# Altium footprint library Core51822-related.PcbLib: 15 footprints
Each footprint in its own frame and in the unit in brackets; x right, y up, seen from the top. Pads: shape width x height; smd on the part's side, far side on the other; paste and mask are expansions set on the pad; w line width, h text height; cw(c..) or ccw(c..) is an arc to the next point about the centre after c.
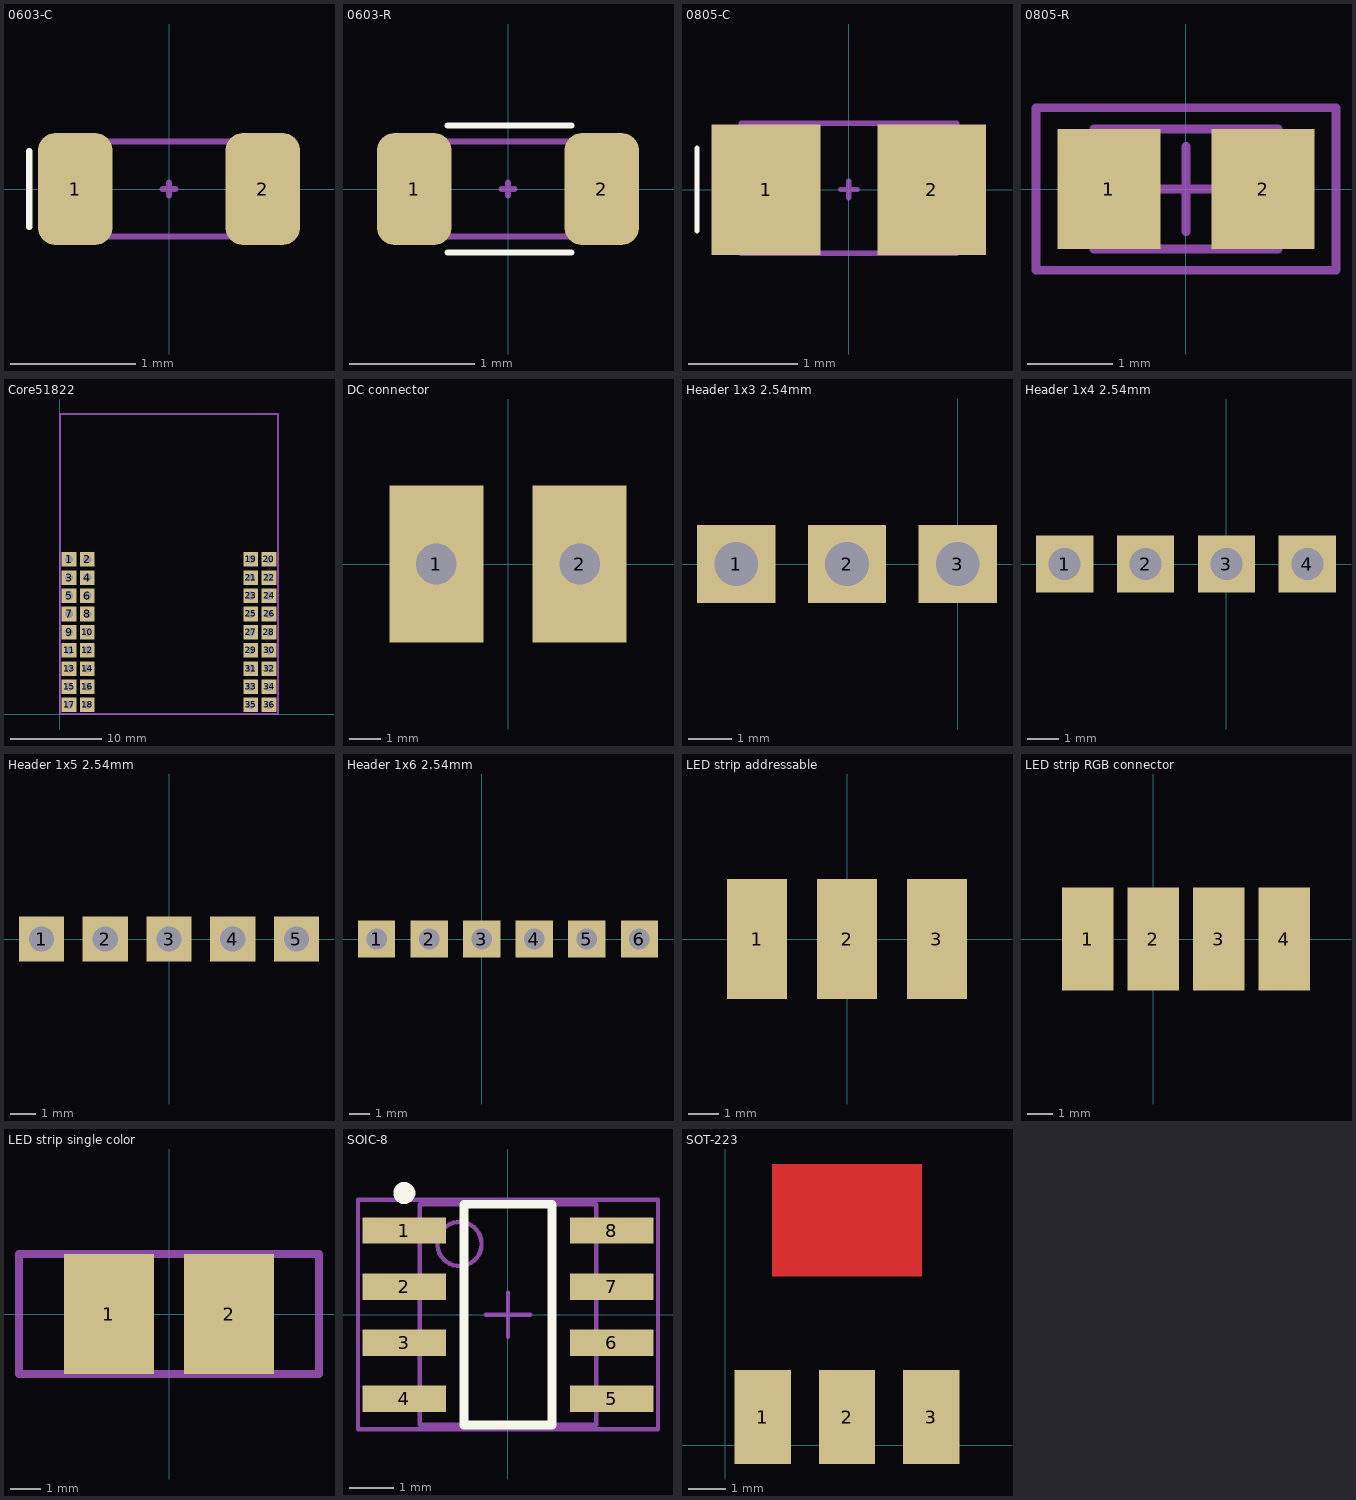
[diagram p0: the footprints below, top view; thin cyan lines are the x and y axes]

## 0603-C [mm]
pads (2):
  rrect50% 0.6x0.9 smd mask+0.01: 1(-0.75,0) 2(0.75,0)
Top Overlay:
  lines w0.05: -1.118,-0.305 -1.118,0.305
Mechanical 13:
  lines w0.05: -0.762,-0.381 0.787,-0.381 0.787,0.381 -0.762,0.381 -0.762,-0.381
Mechanical 15:
  lines w0.05: -0.051,0 0.051,0 ; 0,-0.051 0,0.051
3D body: height 0.3, standoff 0, extent -0.775,-0.381 0.825,0.419

## 0603-R [mm]
pads (2):
  rrect50% 0.6x0.9 smd mask+0.01: 1(-0.75,0) 2(0.75,0)
Top Overlay:
  lines w0.05: -0.483,-0.508 0.508,-0.508 ; -0.483,0.508 0.508,0.508
Mechanical 13:
  lines w0.05: -0.762,-0.381 -0.762,0.381 0.787,0.381 0.787,-0.381 -0.762,-0.381
Mechanical 15:
  lines w0.05: -0.051,0 0.051,0 ; 0,-0.051 0,0.051
3D body: height 0.56, standoff 0, extent -0.824,-0.4 0.876,0.4

## 0805-C [mm]
pads (2):
  rect 1x1.2 smd mask+0.01: 1(-0.762,0) 2(0.762,0)
Top Overlay:
  lines w0.05: -1.397,-0.381 -1.397,0.381
Mechanical 13:
  lines w0.05: -0.991,-0.584 -0.991,0.61 0.991,0.61 0.991,-0.584 -0.991,-0.584
Mechanical 15:
  lines w0.05: -0.076,0 0.076,0 ; 0,-0.076 0,0.076
3D body: height 0.78, standoff 0, extent -1,-0.625 1,0.625

## 0805-R [mm] "Resistor 0805 / 2012 (2.0 x 1.2 mm)"
height 1.3
pads (2):
  rect 1.2x1.4 smd: 1(-0.9,0) 2(0.9,0)
Mechanical 13:
  lines w0.1: -1.075,-0.7 -1.075,0.7 1.075,0.7 1.075,-0.7 -1.075,-0.7
Mechanical 15:
  lines w0.1: -0.5,0 0.5,0 ; 0,-0.5 0,0.5 ; -1.75,-0.95 -1.75,0.95 1.75,0.95 1.75,-0.95 -1.75,-0.95
3D body: height 0.45, standoff 0, extent -1,-0.625 1,0.625

## Core51822 [mm]
pads (36):
  rect 1.6x1.6 hole 0.9: 1(1,17) 2(3,17) 3(1,15) 4(3,15) 5(1,13) 6(3,13) 7(1,11) 8(3,11) 9(1,9) 10(3,9) 11(1,7) 12(3,7) 13(1,5) 14(3,5) 15(1,3) 16(3,3) 17(1,1) 18(3,1) 19(21,17) 20(23,17) 21(21,15) 22(23,15) 23(21,13) 24(23,13) 25(21,11) 26(23,11) 27(21,9) 28(23,9) 29(21,7) 30(23,7) 31(21,5) 32(23,5) 33(21,3) 34(23,3) 35(21,1) 36(23,1)
Mechanical 1:
  lines w0.254: 0,0 24,0 24,33 0,33 0,0

## DC connector [mm]
pads (2):
  rect 3x5 hole 1.3: 1(-2.286,0) 2(2.286,0)

## Header 1x3 2.54mm [mm]
pads (3):
  rect 1.8x1.8 hole 1: 1(-5.08,0) 2(-2.54,0) 3(0,0)

## Header 1x4 2.54mm [mm]
pads (4):
  rect 1.8x1.8 hole 1: 1(-5.08,0) 2(-2.54,0) 3(0,0) 4(2.54,0)

## Header 1x5 2.54mm [mm]
pads (5):
  rect 1.8x1.8 hole 1: 1(-5.08,0) 2(-2.54,0) 3(0,0) 4(2.54,0) 5(5.08,0)

## Header 1x6 2.54mm [mm]
pads (6):
  rect 1.8x1.8 hole 1: 1(-5.08,0) 2(-2.54,0) 3(0,0) 4(2.54,0) 5(5.08,0) 6(7.62,0)

## LED strip addressable [mm]
pads (3):
  rect 2x4 all layers, no hole: 1(-3,0) 2(0,0) 3(3,0)

## LED strip RGB connector [mm]
pads (4):
  rect 2x4 all layers, no hole: 1(-2.54,0) 2(0,0) 3(2.54,0) 4(5.08,0)

## LED strip single color [mm]
pads (2):
  rect 3x4 all layers, no hole: 1(-2,0) 2(2,0)
Mechanical 1:
  lines w0.254: -5,-2 5,-2 5,2 -5,2 -5,-2

## SOIC-8 [mm] "SOIC, 8-Leads, Body 4.9x3.9mm, Pitch 1.27mm, IPC High Density"
height 1.75
pads (8):
  rect 1.9x0.6 smd: 1(-2.35,1.905) 2(-2.35,0.635) 3(-2.35,-0.635) 4(-2.35,-1.905) 5(2.35,-1.905) 6(2.35,-0.635) 7(2.35,0.635) 8(2.35,1.905)
Top Overlay:
  circle w0.25: c-2.35,2.755 r0.125
  lines w0.2: -1,-2.5 -1,2.5 1,2.5 1,-2.5 -1,-2.5
Mechanical 13:
  circle w0.1: c-1.1,1.6 r0.5
  lines w0.1: -2,-2.5 -2,2.5 2,2.5 2,-2.5 -2,-2.5
Mechanical 15:
  lines w0.1: -0.5,0 0.5,0 ; 0,-0.5 0,0.5 ; -3.4,-2.6 -3.4,2.6 3.4,2.6 3.4,-2.6 -3.4,-2.6
3D body: height 1.75, standoff 0, extent -3,-2.45 3,2.45

## SOT-223 [mm]
pads (3):
  rect 1.5x2.5 all layers, no hole: 1(1,0.75) 2(3.25,0.75) 3(5.5,0.75)
Top Layer:
  rectangle: 1.25,4.5 5.25,7.5
3D body: height 1.6, standoff -0.1, extent 0,0 6.5,6.891